# Altium schematic symbol library S6B-PH-K-S(LF)(SN) JST 6PIN.SchLib: 1 symbol
Pins are listed as number, name and electrical type; pins without a type are passive.

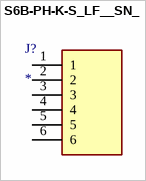
[diagram p0: symbol S6B-PH-K-S_LF__SN_]

## S6B-PH-K-S_LF__SN_
designator J?
Connector; Manufacturer_Name: JST (JAPAN SOLDERLESS TERMINALS); Manufacturer_Part_Number: S6B-PH-K-S(LF)(SN); Description: JST PH Series; Datasheet Link: http://www.jst-mfg.com/product/pdf/eng/ePH.pdf; Height: 4.8mm; Arrow Part Number: S6B-PH-K-S(LF)(SN); Arrow Price/Stock: https://www.arrow.com/en/products/s6b-ph-k-s-lf-sn/jst-manufacturing?region=nac
footprint SHDRRA6W50P0X200_1X6_1390X760X480P
pins: 1, 2, 3, 4, 5, 6